# EAGLE library part TE3/8 (library busbar)
BUS BAR 8 connections, grid 3 TE
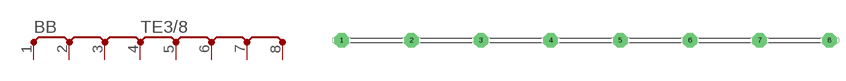
[diagram p0: symbol with the pads of TE3/8; footprint TE3/8]

Designator prefix BB

## TE3/8  [TE3/8]
1  P  pas
2  P  pas
3  P  pas
4  P  pas
5  P  pas
6  P  pas
7  P  pas
8  P  pas

## Footprint TE3/8 (pad centres in mm)
BUS BAR 8 connections, grid 3 TE
drill 1.6 pad 3.15 octagon: 1 -53.34,0; 2 -38.1,0; 3 -22.86,0; 4 -7.62,0; 5 7.62,0; 6 22.86,0; 7 38.1,0; 8 53.34,0